# Altium footprint library Inductor_MSS7341-103MLB_2-PIN.PcbLib: 1 footprints
Each footprint in its own frame and in the unit in brackets; x right, y up, seen from the top. Pads: shape width x height; smd on the part's side, far side on the other; paste and mask are expansions set on the pad; w line width, h text height; cw(c..) or ccw(c..) is an arc to the next point about the centre after c.
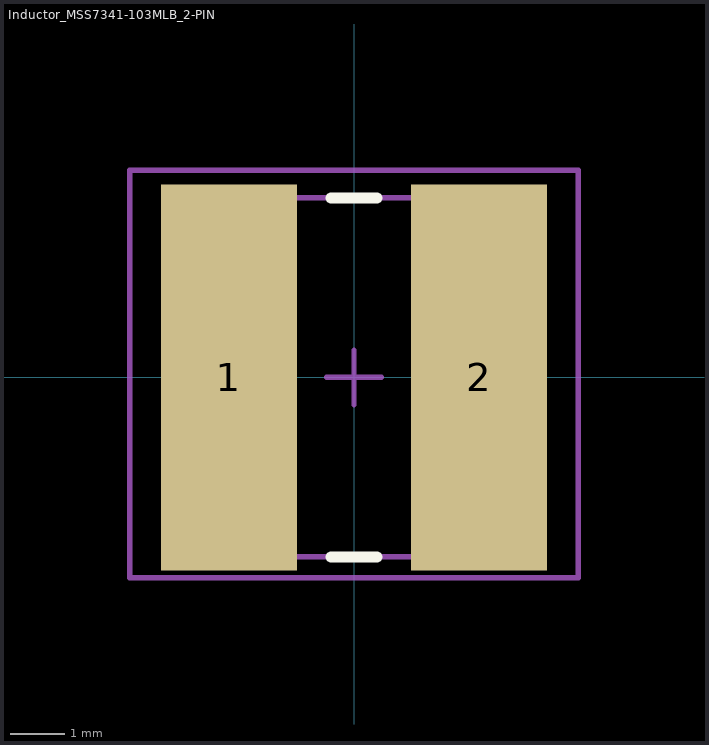
[diagram p0: the footprint, top view; thin cyan lines are the x and y axes]

## Inductor_MSS7341-103MLB_2-PIN [mm]
height 4.1
pads (2):
  rect 2.5x7.1 smd: 1(-2.3,0) 2(2.3,0)
Top Overlay:
  lines w0.2: -0.425,-3.3 0.425,-3.3 ; -0.425,3.3 0.425,3.3
Mechanical 13:
  lines w0.1: -3.3,-3.3 3.3,-3.3 3.3,3.3 -3.3,3.3 -3.3,-3.3
Mechanical 15:
  lines w0.1: -0.5,0 0.5,0 ; 0,-0.5 0,0.5 ; -4.125,-3.683 4.125,-3.683 4.125,3.81 -4.125,3.81 -4.125,-3.683
3D body: height 4.1, standoff 0, extent -3.3,-3.3 3.3,3.3